# Altium footprint library PCB.PcbLib: 34 footprints (part 1 of 3)
Each footprint in its own frame and in the unit in brackets; x right, y up, seen from the top. Pads: shape width x height; smd on the part's side, far side on the other; paste and mask are expansions set on the pad; w line width, h text height; cw(c..) or ccw(c..) is an arc to the next point about the centre after c.
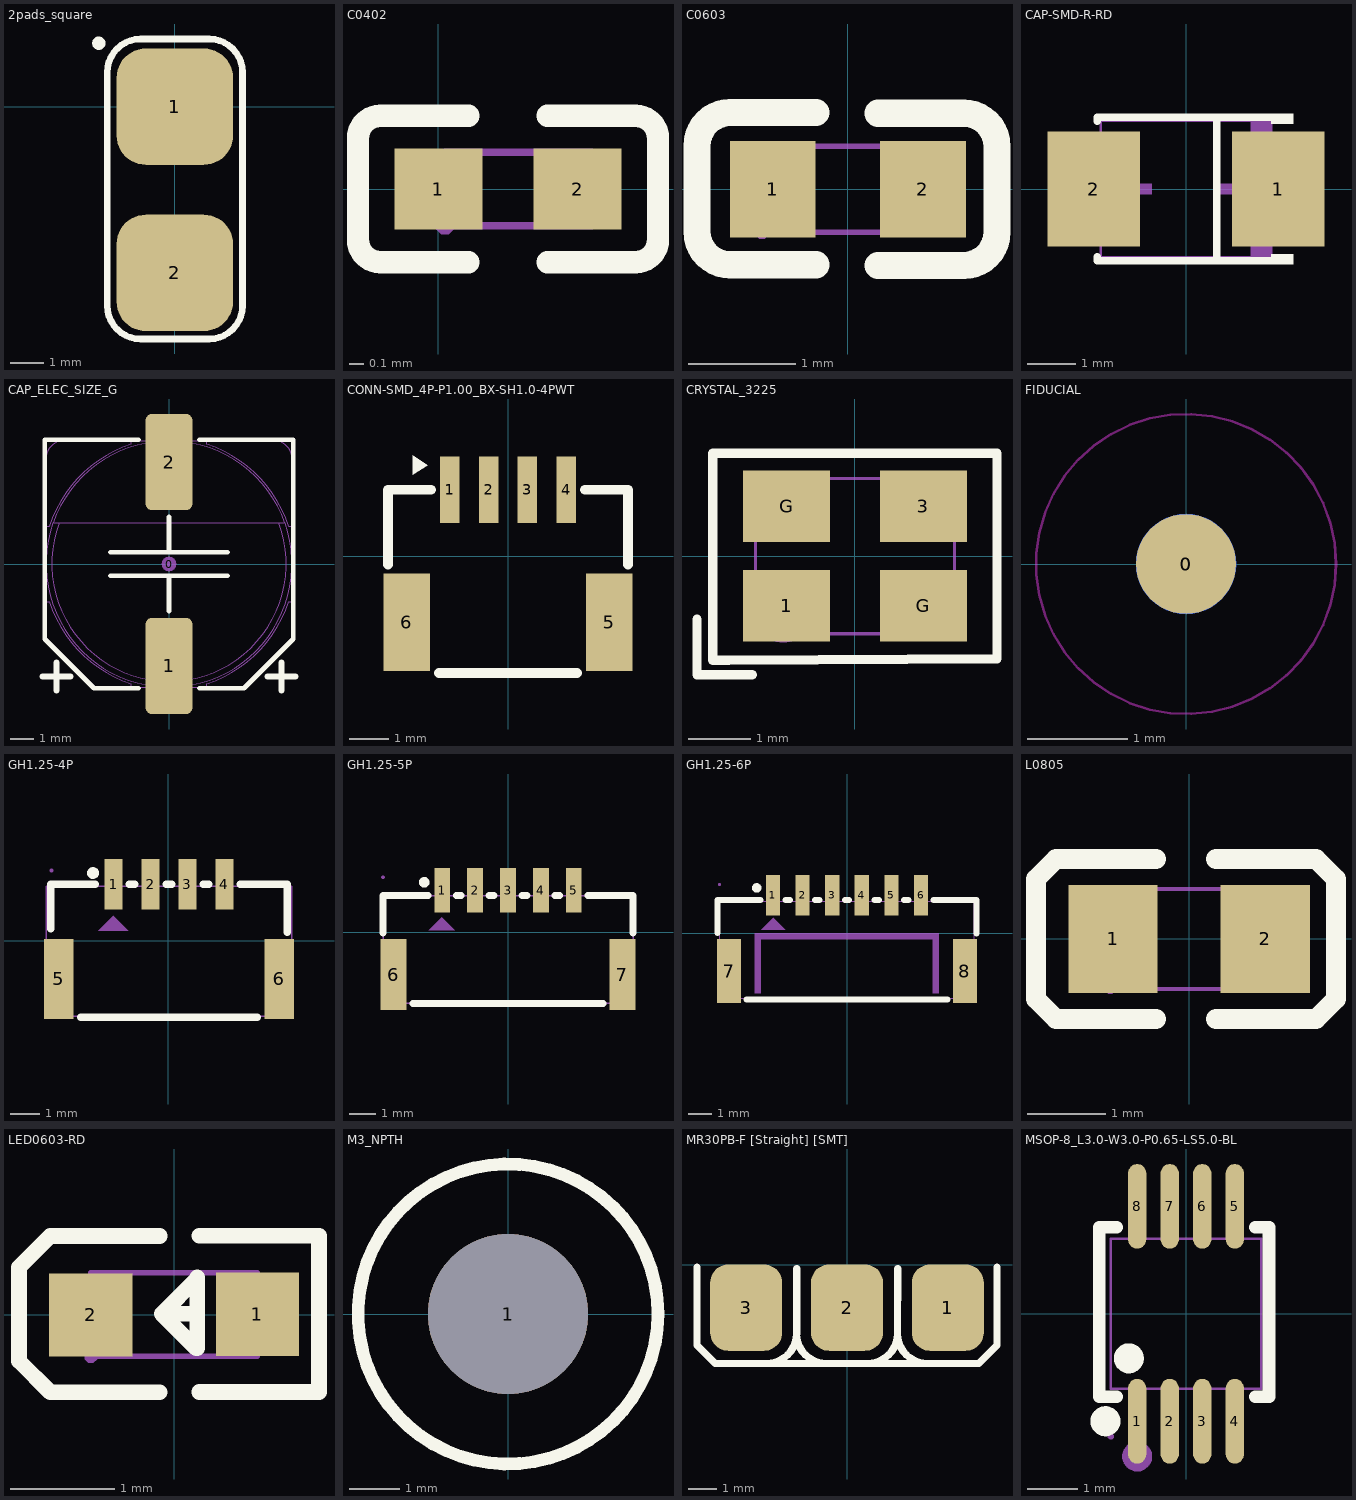
[diagram p0: the footprints below, top view; thin cyan lines are the x and y axes]

## 2pads_square [mm]
pads (2):
  rrect50% 3.5x3.5 smd: 1(0,0) 2(0,-5)
Top Overlay:
  circle w0.2: c-2.286,1.905 r0.1
  lines w0.2: -2.032,-5.985 ccw(c-1.032,-5.985) -1.032,-6.985 1.032,-6.985 ccw(c1.032,-5.985) 2.032,-5.985 2.032,1.032 ccw(c1.032,1.032) 1.032,2.032 -1.032,2.032 ccw(c-1.032,1.032) -2.032,1.032 -2.032,-5.985

## C0402 [mm]
pads (2):
  rect 0.6x0.55 smd paste-100 mask+0.051: 1(0,0) 2(0.95,0)
Top Overlay:
  lines w0.152: -0.395,-0.499 cw(c-0.395,-0.346) -0.547,-0.346 -0.547,0.346 cw(c-0.395,0.346) -0.395,0.499 ; -0.394,-0.499 0.206,-0.499 ; -0.394,0.499 0.206,0.499 ; 0.744,-0.499 1.344,-0.499 ; 0.744,0.499 1.344,0.499 ; 1.345,-0.499 ccw(c1.345,-0.346) 1.497,-0.346 1.497,0.346 ccw(c1.345,0.346) 1.345,0.499
Top Paste:
  region: 1.25,0.224 1.25,-0.226 1.2,-0.276 0.72,-0.276 0.65,-0.226 0.65,0.224 0.72,0.274 1.2,0.274
  region: 0.295,0.222 0.295,-0.228 0.225,-0.278 -0.255,-0.278 -0.305,-0.228 -0.305,0.222 -0.255,0.272 0.225,0.272
Mechanical 15:
  region: 1.045,-0.25 1.045,0.25 0.795,0.25 0.795,-0.25
  region: 0.045,-0.25 0.045,0.25 0.295,0.25 0.295,-0.25
  region: 0.105,-0.25 0.105,-0.225 0.07,-0.19 0.02,-0.19 -0.015,-0.225 -0.015,-0.25 -0.015,-0.275 0.02,-0.31 0.07,-0.31 0.105,-0.275
  lines w0.051: 0.045,-0.25 1.045,-0.25 1.045,0.25 0.045,0.25 0.045,-0.25
3D body "3D_PCB1_2023-04-25.step": height 0.5, standoff 0, extent -0.017,-0.254 0.983,0.246

## C0603 [mm]
pads (2):
  rect 0.8x0.9 smd mask+0.051: 1(-0.7,0) 2(0.7,0)
Top Overlay:
  lines w0.254: -0.296,-0.704 -1.096,-0.704 cw(c-1.096,-0.394) -1.406,-0.394 -1.405,0.406 cw(c-1.096,0.406) -1.096,0.715 -0.296,0.715 ; 0.28,-0.71 1.08,-0.71 ccw(c1.08,-0.4) 1.39,-0.4 1.39,0.4 ccw(c1.08,0.4) 1.08,0.71 0.28,0.71
Mechanical 15:
  region: -0.8,-0.4 -0.8,0.4 -0.5,0.4 -0.5,-0.4
  region: 0.8,-0.4 0.8,0.4 0.5,0.4 0.5,-0.4
  region: -0.74,-0.4 -0.74,-0.375 -0.775,-0.34 -0.825,-0.34 -0.86,-0.375 -0.86,-0.4 -0.86,-0.425 -0.825,-0.46 -0.775,-0.46 -0.74,-0.425
  lines w0.051: -0.8,-0.4 -0.8,0.4 0.8,0.4 0.8,-0.4 -0.8,-0.4
3D body "C0603.step": height 0.8, standoff 0, extent -0.798,-0.395 0.802,0.405

## CAP-SMD-R-RD [mm] "CASE-B-3528"
pads (2):
  rect 1.9x2.376 smd mask+0.051: 1(1.899,0) 2(-1.899,0)
Top Overlay:
  region: 1.75,-1.552 1.75,-1.34 2.207,-1.34 2.207,-1.552
  region: 1.75,1.552 1.75,1.34 2.207,1.34 2.207,1.552
  lines w0.152: -1.826,-1.391 -1.826,-1.476 1.826,-1.476 ; -1.826,1.391 -1.826,1.476 1.826,1.476 ; 0.635,-1.476 0.635,1.476
Mechanical 6:
  region: 1.75,1.4 1.75,0.7 1.33,0.7 1.33,1.4
  region: 1.75,-1.4 1.75,-0.7 1.33,-0.7 1.33,-1.4
  region: 1.225,-0.7 1.225,0.7 1.015,0.7 1.015,-0.7
  region: 1.54,-0.105 1.54,0.105 0.7,0.105 0.7,-0.105
  region: -1.54,-0.105 -1.54,0.105 -0.7,0.105 -0.7,-0.105
Mechanical 15:
  region: 1.75,-1.1 1.75,1.1 1.05,1.1 1.05,-1.1
  region: -1.75,-1.1 -1.75,1.1 -1.05,1.1 -1.05,-1.1
  region: 1.81,1.4 1.81,1.425 1.775,1.46 1.725,1.46 1.69,1.425 1.69,1.4 1.69,1.375 1.725,1.34 1.775,1.34 1.81,1.375
  lines w0.051: -1.75,-1.4 1.75,-1.4 1.75,1.4 -1.75,1.4 -1.75,-1.4
3D body "3D_PCB1_2023-02-25.step": height 2, standoff 0, extent -1.825,-1.397 1.875,1.403

## CAP_ELEC_SIZE_G [mm] "Capacitor, polarized, aluminum can; 10.0x10.2mm DxH"
height 10.2
pads (3):
  round 0.635 on Mech15: 0(0,0)
  rrect25% 2x4.1 smd: 1(0,-4.35) 2(0,4.35)
Top Overlay:
  lines w0.203: -2.5,-0.5 2.5,-0.5 ; -2.5,0.5 2.5,0.5 ; -1.3,-5.3 -3.2,-5.3 -5.3,-3.2 -5.3,5.3 -1.3,5.3 ; 0,-2 0,-0.5 ; 0,0.5 0,2 ; 1.3,-5.3 3.2,-5.3 5.3,-3.2 5.3,5.3 1.3,5.3
  lines w0.254: -5.4,-4.8 -4.2,-4.8 ; -4.8,-5.4 -4.8,-4.2 ; 4.2,-4.8 5.4,-4.8 ; 4.8,-5.4 4.8,-4.2
Mechanical 13:
  lines w0.05: -5.25,-1.601 -5.105,-1.601 ccw(c0,0) -1.601,-5.105 -1.601,-5.25 ; -5.25,1.601 -5.105,1.601 cw(c0,0) -1.601,5.105 -1.601,5.25 ; -4.948,1.75 cw(c0,0) 4.948,1.75 ; -4.684,1.75 ccw(c0,0) 4.684,1.75 ; -0.45,-5.25 -0.45,-6 0.45,-6 0.45,-5.25 ; -0.45,5.25 -0.45,6 0.45,6 0.45,5.25 ; 1.601,-5.25 1.601,-5.105 ccw(c0,0) 5.105,-1.601 5.25,-1.601 ; 1.601,5.25 1.601,5.105 cw(c0,0) 5.105,1.601 5.25,1.601 ; -5.25,-3.15 -3.15,-5.25 3.15,-5.25 5.25,-3.15 5.25,4.5 ccw(c4.5,4.5) 4.5,5.25 -4.5,5.25 ccw(c-4.5,4.5) -5.25,4.5 -5.25,-3.15 ; -4.95,1.75 ccw(c0,0) 4.95,1.75 -4.95,1.75
3D body "CAP Alum Elec Size G.STEP": height 10.5, standoff 0, extent -5.25,-6 5.25,6

## CONN-SMD_4P-P1.00_BX-SH1.0-4PWT [mm]
pads (6):
  rect 0.5x1.7 smd paste+0 mask+0.05: 1(-1.5,1.7) 2(-0.5,1.7) 3(0.5,1.7) 4(1.5,1.7)
  rect 1.2x2.5 smd paste+0 mask+0.05: 5(2.6,-1.7) 6(-2.6,-1.7)
Top Overlay:
  region: -2.064,2.335 -2.445,2.589 -2.445,2.081
  lines w0.254: -3.08,-0.219 -3.08,1.7 -1.981,1.7 ; -1.774,-2.999 1.774,-2.999 ; 1.981,1.7 3.08,1.7 3.08,-0.219

## CRYSTAL_3225 [mm] "4P-L3.2-W2.5-BL-2"
pads (4):
  rect 1.4x1.15 smd paste+0 mask+0.051: 1(-1.1,-0.8) 3(1.1,0.8) G(-1.1,0.8) G(1.1,-0.8)
Top Overlay:
  lines w0.152: -2.54,-1.016 -2.54,-1.778 -2.54,-1.905 -1.651,-1.905 ; -2.286,-1.679 -2.03,-1.679 2.286,-1.651 2.286,0 2.286,1.651 -2.286,1.651 -2.286,-1.679
Mechanical 6:
  circle w0.5: c-1.143,-0.889 r0.25
Mechanical 15:
  region: 0.5,1.15 1.5,1.15 1.5,0.35 0.5,0.35
  region: -1.5,1.15 -0.5,1.15 -0.5,0.35 -1.5,0.35
  region: -1.5,-0.35 -0.5,-0.35 -0.5,-1.15 -1.5,-1.15
  region: 0.5,-0.35 1.5,-0.35 1.5,-1.15 0.5,-1.15
  region: -1.54,-1.25 -1.54,-1.225 -1.575,-1.19 -1.625,-1.19 -1.66,-1.225 -1.66,-1.25 -1.66,-1.275 -1.625,-1.31 -1.575,-1.31 -1.54,-1.275
  lines w0.051: -1.6,-1.25 -1.6,1.25 1.6,1.25 1.6,-1.25 -1.6,-1.25
3D body "3d_pcb1_2023-08-30_asm.stp": height 0.81, standoff 0, extent -1.6,-1.255 1.6,1.245

## FIDUCIAL [mm] "1mm fiducial with 3mm keepout"
pads (2):
  round 1 smd far side paste-1 mask+0.5: 0(0,0)
  round 1 smd paste-1 mask+0.5: 0(0,0)
Keep-Out Layer:
  circle w0.025: c0,0 r1.5

## GH1.25-4P [mm]
pads (6):
  rect 0.6x1.7 smd mask+0.05: 1(-1.845,1.905) 2(-0.595,1.905) 3(0.655,1.905) 4(1.905,1.905)
  rect 1x2.7 smd mask+0.05: 5(-3.695,-1.296) 6(3.755,-1.296)
Top Overlay:
  circle w0.2: c-2.54,2.286 r0.1
  lines w0.254: -3.97,0.405 -3.97,1.905 -2.47,1.905 ; -2.964,-2.595 3.024,-2.595 ; -1.314,1.905 -1.126,1.905 ; -0.064,1.905 0.124,1.905 ; 1.186,1.905 1.374,1.905 ; 2.436,1.905 2.53,1.905 4.03,1.905 4.03,0.285
Mechanical 6:
  region: -2.357,0.336 -1.357,0.336 -1.857,0.836
Mechanical 15:
  region: 2.005,1.248 1.805,1.248 1.805,2.248 2.005,2.248
  region: 0.755,1.248 0.555,1.248 0.555,2.248 0.755,2.248
  region: -0.495,1.248 -0.695,1.248 -0.695,2.248 -0.495,2.248
  region: -1.745,1.248 -1.945,1.248 -1.945,2.248 -1.745,2.248
  region: 3.855,-2.546 3.655,-2.546 3.655,-0.046 3.855,-0.046
  region: -3.595,-2.546 -3.795,-2.546 -3.795,-0.046 -3.595,-0.046
  region: -4.008,2.375 -4.008,2.35 -3.973,2.315 -3.923,2.315 -3.888,2.35 -3.888,2.375 -3.888,2.399 -3.923,2.435 -3.973,2.435 -4.008,2.399
  lines w0.051: -4.12,-2.559 4.18,-2.559 4.18,1.841 -4.12,1.841 -4.12,-2.559
3D body "3D_PCB1_2023-04-15.step": height 4.26, standoff 0, extent -4.125,-2.667 4.125,2.192

## GH1.25-5P [mm]
pads (7):
  rect 0.6x1.7 smd mask+0.05: 1(-2.5,1.6) 2(-1.25,1.6) 3(0,1.6) 4(1.25,1.6) 5(2.5,1.6)
  rect 1x2.7 smd mask+0.05: 6(-4.35,-1.6) 7(4.35,-1.6)
Top Overlay:
  circle w0.2: c-3.185,1.905 r0.1
  lines w0.254: -4.75,-0.019 -4.75,1.4 -3.031,1.4 ; -3.619,-2.7 3.619,-2.7 ; -1.969,1.4 -1.781,1.4 ; -0.719,1.4 -0.531,1.4 ; 0.531,1.4 0.719,1.4 ; 1.781,1.4 1.969,1.4 ; 3.031,1.4 4.75,1.4 4.75,-0.019
Mechanical 6:
  region: -3.017,0.083 -2.017,0.083 -2.517,0.583
Mechanical 15:
  region: -4.45,-0.9 -4.25,-0.9 -4.25,-2.6 -4.45,-2.6
  region: 4.25,-0.9 4.45,-0.9 4.45,-2.6 4.25,-2.6
  region: 2.4,2.1 2.6,2.1 2.6,1.1 2.4,1.1
  region: 1.15,2.1 1.35,2.1 1.35,1.1 1.15,1.1
  region: -0.1,2.1 0.1,2.1 0.1,1.1 -0.1,1.1
  region: -1.35,2.1 -1.15,2.1 -1.15,1.1 -1.35,1.1
  region: -2.6,2.1 -2.4,2.1 -2.4,1.1 -2.6,1.1
  region: -4.69,2.1 -4.69,2.125 -4.725,2.16 -4.775,2.16 -4.81,2.125 -4.81,2.1 -4.81,2.075 -4.775,2.04 -4.725,2.04 -4.69,2.075
  lines w0.051: -4.75,-2.7 -4.75,1.4 4.75,1.4 4.75,-2.7 -4.75,-2.7
3D body "3D_PCB1_2023-04-15 (2).step": height 4.26, standoff 0, extent -4.75,-2.921 4.75,1.938

## GH1.25-6P [mm]
pads (8):
  rect 0.6x1.7 smd mask+0.051: 1(-3.125,1.6) 2(-1.875,1.6) 3(-0.625,1.6) 4(0.625,1.6) 5(1.875,1.6) 6(3.125,1.6)
  rect 1x2.7 smd mask+0.051: 7(-4.975,-1.6) 8(4.975,-1.6)
Top Overlay:
  circle w0.2: c-3.81,1.905 r0.1
  lines w0.254: -5.461,0 -5.461,1.397 -3.656,1.397 ; -4.244,-2.794 4.244,-2.794 ; -2.594,1.397 -2.406,1.397 ; -1.344,1.397 -1.156,1.397 ; -0.094,1.397 0.094,1.397 ; 1.156,1.397 1.344,1.397 ; 2.406,1.397 2.594,1.397 ; 3.656,1.397 5.461,1.397 5.461,-0.019
Mechanical 6:
  region: -3.606,0.136 -2.606,0.136 -3.106,0.636
  region: -3.886,-2.54 -3.886,0 3.861,0 3.861,-2.54 3.607,-2.54 3.607,-0.254 -3.632,-0.254 -3.632,-2.54
Mechanical 15:
  region: 4.875,-0.85 5.075,-0.85 5.075,-2.35 4.875,-2.35
  region: -5.075,-0.85 -4.875,-0.85 -4.875,-2.35 -5.075,-2.35
  region: 3.025,2.05 3.225,2.05 3.225,1.05 3.025,1.05
  region: 1.775,2.05 1.975,2.05 1.975,1.05 1.775,1.05
  region: 0.525,2.05 0.725,2.05 0.725,1.05 0.525,1.05
  region: -0.725,2.05 -0.525,2.05 -0.525,1.05 -0.725,1.05
  region: -1.975,2.05 -1.775,2.05 -1.775,1.05 -1.975,1.05
  region: -3.225,2.05 -3.025,2.05 -3.025,1.05 -3.225,1.05
  region: -5.315,2.05 -5.315,2.075 -5.35,2.11 -5.399,2.11 -5.435,2.075 -5.435,2.05 -5.435,2.025 -5.399,1.99 -5.35,1.99 -5.315,2.025
  lines w0.051: -5.375,-2.75 5.375,-2.75 5.375,1.35 -5.375,1.35 -5.375,-2.75
3D body "3D_PCB1_2023-04-15 (1).step": height 4.26, standoff 0, extent -5.375,-2.921 5.375,1.938

## L0805 [mm]
pads (2):
  rect 1.133x1.377 smd paste-100 mask+0.051: 1(-0.966,0) 2(0.966,0)
Top Overlay:
  lines w0.254: -0.421,-1.016 -1.691,-1.016 -1.945,-0.762 -1.945,-0.635 -1.945,0.762 -1.691,1.016 -1.564,1.016 -0.421,1.016 ; 0.341,-1.016 1.484,-1.016 1.611,-1.016 1.865,-0.762 1.865,0.635 1.865,0.762 1.611,1.016 0.341,1.016
Top Paste:
  region: 0.36,-0.22 0.36,0.22 0.745,0.689 1.433,0.689 1.533,0.589 1.533,-0.588 1.433,-0.688 0.745,-0.688
  region: -0.36,-0.22 -0.36,0.22 -0.745,0.689 -1.433,0.689 -1.533,0.589 -1.533,-0.588 -1.433,-0.688 -0.745,-0.688
Mechanical 15:
  region: -1,-0.637 -1,0.638 -0.6,0.638 -0.6,-0.637
  region: 1,-0.637 1,0.638 0.6,0.638 0.6,-0.637
  region: -0.94,-0.637 -0.94,-0.613 -0.975,-0.577 -1.025,-0.577 -1.06,-0.613 -1.06,-0.637 -1.06,-0.662 -1.025,-0.697 -0.975,-0.697 -0.94,-0.662
  lines w0.051: -1,-0.637 1,-0.637 1,0.638 -1,0.638 -1,-0.637

## LED0603-RD [mm]
pads (2):
  rect 0.8x0.8 smd paste+0 mask+0.051: 1(0.799,0.003) 2(-0.799,-0.003)
Top Overlay:
  lines w0.15: -0.14,-0.746 -1.19,-0.746 -1.49,-0.446 -1.49,-0.346 -1.49,0.354 -1.49,0.454 -1.19,0.754 -0.14,0.754 ; 0.22,0.007 -0.12,0.007 ; 0.24,-0.744 1.39,-0.744 ; 0.24,0.757 1.39,0.757 1.39,-0.723 ; -0.12,0.007 0.22,0.347 0.22,0.357 0.22,-0.324 0.21,-0.324 -0.12,0.007
Mechanical 6:
  region: 0.529,0.068 1.069,0.068 1.069,-0.062 0.529,-0.062
  region: 0.735,-0.267 0.735,0.273 0.865,0.273 0.865,-0.267
  region: -1.07,0.062 -0.53,0.062 -0.53,-0.068 -1.07,-0.068
Mechanical 15:
  region: 0.5,-0.396 0.5,0.404 0.8,0.404 0.8,-0.396
  region: -0.8,-0.403 -0.8,0.397 -0.5,0.397 -0.5,-0.403
  region: -0.739,-0.403 -0.739,-0.379 -0.775,-0.344 -0.824,-0.344 -0.859,-0.379 -0.859,-0.403 -0.859,-0.428 -0.824,-0.463 -0.775,-0.463 -0.739,-0.428
  lines w0.051: -0.8,-0.4 0.8,-0.4 0.8,0.4 -0.8,0.4 -0.8,-0.4
3D body "3d_pcb1_2023-11-21_asm.stp": height 0.56, standoff 0, extent -0.81,-0.406 0.81,0.414

## M3_NPTH [mm] "Hole without copper"
pads (1):
  round 3.2 hole 3.2 unplated: 1(0,0)
Top Overlay:
  circle w0.254: c0,0 r3

## MR30PB-F [Straight] [SMT] [mm] "驱动器端"
height 8.4
pads (3):
  rrect50% 2.5x3 smd: 1(3.5,-1.489) 2(0,-1.489) 3(-3.5,-1.489)
Top Overlay:
  lines w0.254: -5.207,-0.076 -5.207,-2.794 -4.572,-3.429 4.572,-3.429 5.207,-2.794 5.207,-0.076 ; -2.787,-3.429 ccw(c-2.787,-2.394) -1.753,-2.394 ccw(c-0.718,-2.394) -0.718,-3.429 ; -1.749,-2.394 -1.746,-0.127 ; 0.718,-3.429 ccw(c0.718,-2.394) 1.753,-2.394 ccw(c2.787,-2.394) 2.787,-3.429 ; 1.756,-2.394 1.76,-0.127
3D body "asm0001_asm.stp": height 2.74, standoff -2.56, extent -5.944,-1.778 5.944,9.622

## MSOP-8_L3.0-W3.0-P0.65-LS5.0-BL [mm]
pads (8):
  oval 0.364x1.692 smd: 1(-0.975,-2.146) 2(-0.325,-2.146) 3(0.325,-2.146) 4(0.975,-2.146) 5(0.975,2.146) 6(0.325,2.146) 7(-0.325,2.146) 8(-0.975,2.146)
Top Overlay:
  circle w0.3: c-1.143,-0.889 r0.15
  circle w0.3: c-1.609,-2.146 r0.15
  lines w0.254: -1.73,1.724 -1.73,-1.652 -1.723,-1.658 -1.388,-1.658 ; -1.717,1.71 -1.697,1.73 -1.388,1.73 ; 1.388,-1.658 1.659,-1.658 1.659,1.73 1.388,1.73
Mechanical 6:
  circle w0.3: c-0.975,-2.85 r0.15
Mechanical 15:
  region: -1.13,-2.45 -1.13,-1.85 -0.82,-1.85 -0.82,-2.45
  region: -1.13,-1.86 -1.13,-1.49 -0.82,-1.49 -0.82,-1.86
  region: -0.48,-2.45 -0.48,-1.85 -0.17,-1.85 -0.17,-2.45
  region: -0.48,-1.86 -0.48,-1.49 -0.17,-1.49 -0.17,-1.86
  region: 0.17,-2.45 0.17,-1.85 0.48,-1.85 0.48,-2.45
  region: 0.17,-1.86 0.17,-1.49 0.48,-1.49 0.48,-1.86
  region: 0.82,-2.45 0.82,-1.85 1.13,-1.85 1.13,-2.45
  region: 0.82,-1.86 0.82,-1.49 1.13,-1.49 1.13,-1.86
  region: -1.13,2.45 -1.13,1.85 -0.82,1.85 -0.82,2.45
  region: -1.13,1.86 -1.13,1.49 -0.82,1.49 -0.82,1.86
  region: -0.48,2.45 -0.48,1.85 -0.17,1.85 -0.17,2.45
  region: -0.48,1.86 -0.48,1.49 -0.17,1.49 -0.17,1.86
  region: 0.17,2.45 0.17,1.85 0.48,1.85 0.48,2.45
  region: 0.17,1.86 0.17,1.49 0.48,1.49 0.48,1.86
  region: 0.82,2.45 0.82,1.85 1.13,1.85 1.13,2.45
  region: 0.82,1.86 0.82,1.49 1.13,1.49 1.13,1.86
  region: -1.44,-2.45 -1.44,-2.425 -1.475,-2.39 -1.525,-2.39 -1.56,-2.425 -1.56,-2.45 -1.56,-2.475 -1.525,-2.51 -1.475,-2.51 -1.44,-2.475
  lines w0.051: -1.5,-1.5 -1.5,1.5 1.5,1.5 1.5,-1.5 -1.5,-1.5
3D body "3d_pcb1_2023-12-04_asm.stp": height 1, standoff 0, extent -1.527,-2.5 1.473,2.5